# Altium footprint library PcbLib1.PcbLib: 1 footprints
Each footprint in its own frame and in the unit in brackets; x right, y up, seen from the top. Pads: shape width x height; smd on the part's side, far side on the other; paste and mask are expansions set on the pad; w line width, h text height; cw(c..) or ccw(c..) is an arc to the next point about the centre after c.
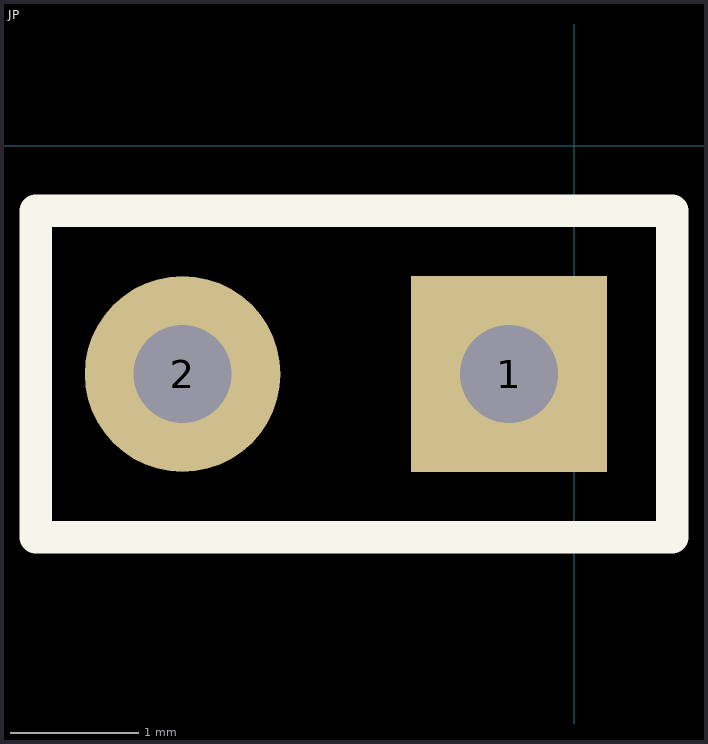
[diagram p0: the footprint, top view; thin cyan lines are the x and y axes]

## JP [mil]
pads (2):
  rect 60x60 hole 30: 1(-20,-70)
  round 60 hole 30: 2(-120,-70)
Top Overlay:
  lines w10: -165,-120 30,-120 30,-20 -165,-20 -165,-120